# Altium schematic symbol library Nixie_Driver.SchLib: 4 symbols
Pins are listed as number, name and electrical type; pins without a type are passive.

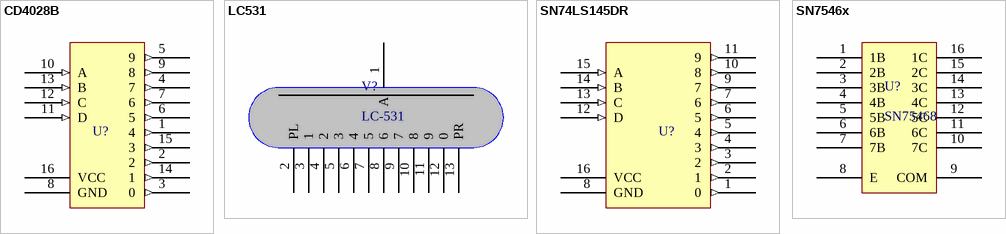
[diagram p0: symbols CD4028B to SN7546x]

## CD4028B
designator U?
BCD-to-decimal driver
footprint CD4028B
pins: 1 4 (out), 2 (out), 3 0 (out), 4 7 (out), 5 9 (out), 6 5 (out), 7 6 (out), 8 GND (power), 9 8 (out), 10 A (in), 11 D (in), 12 C (in), 13 B (in), 14 1 (out), 15 3 (out), 16 VCC (power)

## LC531
designator V?, comment LC-531
Nixie tube
footprint LC-531 (Nixie tube)
pins: 1 A, 2 PL, 3 1, 4 2, 5 3, 6 4, 7 5, 8 6, 9 7, 10 8, 11 9, 12 0, 13 PR

## SN74LS145DR
designator U?
BCD-to-decimal driver
footprint SN74LS145D
pins: 1 0 (out), 2 1 (out), 3 2 (out), 4 3 (out), 5 4 (out), 6 5 (out), 7 6 (out), 8 GND (power), 9 7 (out), 10 8 (out), 11 9 (out), 12 D (in), 13 C (in), 14 B (in), 15 A (in), 16 VCC (power)

## SN7546x
designator U?, comment SN75468
Darlington Transistor Array
footprint SN7546x
pins: 1 1B, 2 2B, 3 3B, 4 4B, 5 5B, 6 6B, 7 7B, 8 E, 9 COM, 10 7C, 11 6C, 12 5C, 13 4C, 14 3C, 15 2C, 16 1C